# Altium schematic symbol library WE-MXGI.SchLib: 45 symbols
Pins are listed as number, name and electrical type; pins without a type are passive.

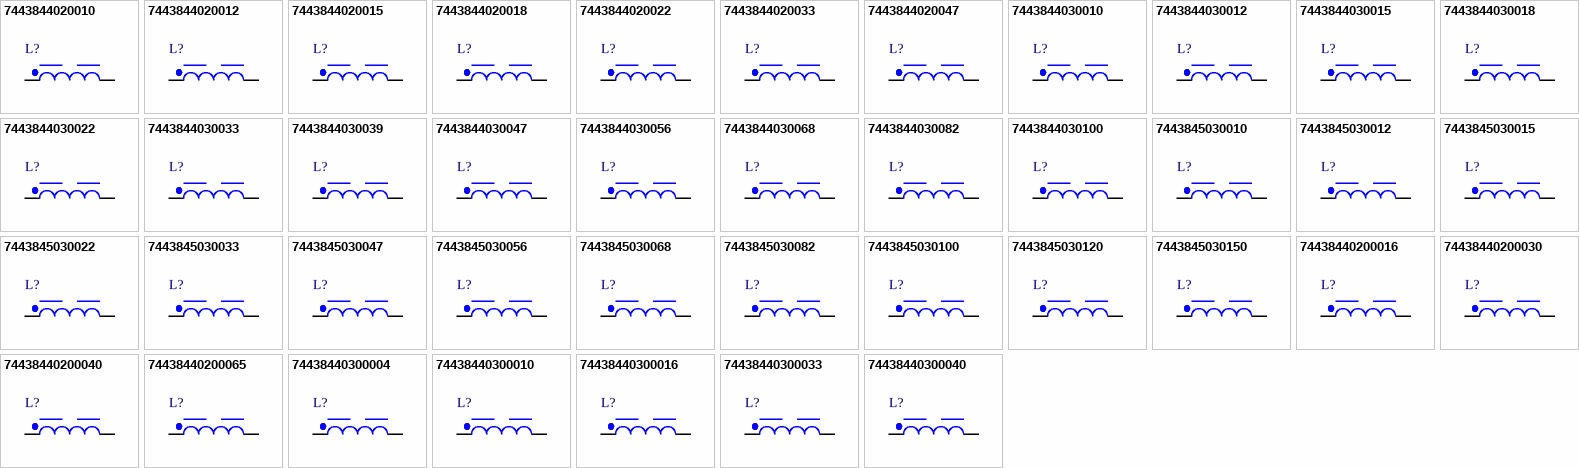
[diagram p0: symbols 7443844020010 to 74438440300040]

## 7443844020010
designator L?, comment 1μH  (value not drawn)
WE-MXGI SMT Power Inductor, size 4020, 1μH, 12.1A, 6.9mΩ; Manufacturer Part Number: 7443844020010; Manufacturer: Wurth Elektronik; Case/Size Code: 4020; Operating Voltage: 80V; Saturation Current @ 30%: 9.8A; Self Resonant Frequency: 59MHz; Category: Power Inductors; Match Code: WE-MXGI; ComponentLink1Description: Website Link; ComponentLink1URL: https://www.we-online.com/redexpert/article/7443844020010?ad; ComponentLink2Description: Datasheet Link; ComponentLink2URL: https://www.we-online.com/redexpert/spec/7443844020010?ad; Mount: Surface Mount; Min Operating Temperature: -40°C; Max Operating Temperature: 125°C; Packaging: Tape and Reel; Length: 4.1mm; Width: 4.1mm; Height: 2.1mm; DC Resistance: 6.9mΩ; Inductance: 1μH; Performance Rated Current: 12.1A
footprint WE-MXGI_4020
footprint WE-MXGI_4020_IPC-7351
simulation model 4020_7443844020010_1u
pins: 1, 2

## 7443844020012
designator L?, comment 1.2μH  (value not drawn)
WE-MXGI SMT Power Inductor, size 4020, 1.2μH, 11A, 8.4mΩ; Manufacturer Part Number: 7443844020012; Manufacturer: Wurth Elektronik; Case/Size Code: 4020; Operating Voltage: 80V; Saturation Current @ 30%: 8.8A; Self Resonant Frequency: 53MHz; Category: Power Inductors; Match Code: WE-MXGI; ComponentLink1Description: Website Link; ComponentLink1URL: https://www.we-online.com/redexpert/article/7443844020012?ad; ComponentLink2Description: Datasheet Link; ComponentLink2URL: https://www.we-online.com/redexpert/spec/7443844020012?ad; Mount: Surface Mount; Min Operating Temperature: -40°C; Max Operating Temperature: 125°C; Packaging: Tape and Reel; Length: 4.1mm; Width: 4.1mm; Height: 2.1mm; DC Resistance: 8.4mΩ; Inductance: 1.2μH; Performance Rated Current: 11A
footprint WE-MXGI_4020
footprint WE-MXGI_4020_IPC-7351
simulation model 4020_7443844020012_1.2u
pins: 1, 2

## 7443844020015
designator L?, comment 1.5μH  (value not drawn)
WE-MXGI SMT Power Inductor, size 4020, 1.5μH, 10.3A, 10mΩ; Manufacturer Part Number: 7443844020015; Manufacturer: Wurth Elektronik; Case/Size Code: 4020; Operating Voltage: 80V; Saturation Current @ 30%: 8.4A; Self Resonant Frequency: 50MHz; Category: Power Inductors; Match Code: WE-MXGI; ComponentLink1Description: Website Link; ComponentLink1URL: https://www.we-online.com/redexpert/article/7443844020015?ad; ComponentLink2Description: Datasheet Link; ComponentLink2URL: https://www.we-online.com/redexpert/spec/7443844020015?ad; Mount: Surface Mount; Min Operating Temperature: -40°C; Max Operating Temperature: 125°C; Packaging: Tape and Reel; Length: 4.1mm; Width: 4.1mm; Height: 2.1mm; DC Resistance: 10mΩ; Inductance: 1.5μH; Performance Rated Current: 10.3A
footprint WE-MXGI_4020
footprint WE-MXGI_4020_IPC-7351
simulation model 4020_7443844020015_1.5u
pins: 1, 2

## 7443844020018
designator L?, comment 1.8μH  (value not drawn)
WE-MXGI SMT Power Inductor, size 4020, 1.8μH, 9.5A, 11.9mΩ; Manufacturer Part Number: 7443844020018; Manufacturer: Wurth Elektronik; Case/Size Code: 4020; Operating Voltage: 80V; Saturation Current @ 30%: 7.1A; Self Resonant Frequency: 42MHz; Category: Power Inductors; Match Code: WE-MXGI; ComponentLink1Description: Website Link; ComponentLink1URL: https://www.we-online.com/redexpert/article/7443844020018?ad; ComponentLink2Description: Datasheet Link; ComponentLink2URL: https://www.we-online.com/redexpert/spec/7443844020018?ad; Mount: Surface Mount; Min Operating Temperature: -40°C; Max Operating Temperature: 125°C; Packaging: Tape and Reel; Length: 4.1mm; Width: 4.1mm; Height: 2.1mm; DC Resistance: 11.9mΩ; Inductance: 1.8μH; Performance Rated Current: 9.5A
footprint WE-MXGI_4020
footprint WE-MXGI_4020_IPC-7351
simulation model 4020_7443844020018_1.8u
pins: 1, 2

## 7443844020022
designator L?, comment 2.2μH  (value not drawn)
WE-MXGI SMT Power Inductor, size 4020, 2.2μH, 7.8A, 15.6mΩ; Manufacturer Part Number: 7443844020022; Manufacturer: Wurth Elektronik; Case/Size Code: 4020; Operating Voltage: 80V; Saturation Current @ 30%: 5.8A; Self Resonant Frequency: 37MHz; Category: Power Inductors; Match Code: WE-MXGI; ComponentLink1Description: Website Link; ComponentLink1URL: https://www.we-online.com/redexpert/article/7443844020022?ad; ComponentLink2Description: Datasheet Link; ComponentLink2URL: https://www.we-online.com/redexpert/spec/7443844020022?ad; Mount: Surface Mount; Min Operating Temperature: -40°C; Max Operating Temperature: 125°C; Packaging: Tape and Reel; Length: 4.1mm; Width: 4.1mm; Height: 2.1mm; DC Resistance: 15.6mΩ; Inductance: 2.2μH; Performance Rated Current: 7.8A
footprint WE-MXGI_4020
footprint WE-MXGI_4020_IPC-7351
simulation model 4020_7443844020022_2.2u
pins: 1, 2

## 7443844020033
designator L?, comment 3.3μH  (value not drawn)
WE-MXGI SMT Power Inductor, size 4020, 3.3μH, 6.1A, 26.6mΩ; Manufacturer Part Number: 7443844020033; Manufacturer: Wurth Elektronik; Case/Size Code: 4020; Operating Voltage: 80V; Saturation Current @ 30%: 5.3A; Self Resonant Frequency: 29MHz; Category: Power Inductors; Match Code: WE-MXGI; ComponentLink1Description: Website Link; ComponentLink1URL: https://www.we-online.com/redexpert/article/7443844020033?ad; ComponentLink2Description: Datasheet Link; ComponentLink2URL: https://www.we-online.com/redexpert/spec/7443844020033?ad; Mount: Surface Mount; Min Operating Temperature: -40°C; Max Operating Temperature: 125°C; Packaging: Tape and Reel; Length: 4.1mm; Width: 4.1mm; Height: 2.1mm; DC Resistance: 26.6mΩ; Inductance: 3.3μH; Performance Rated Current: 6.1A
footprint WE-MXGI_4020
footprint WE-MXGI_4020_IPC-7351
simulation model 4020_7443844020033_3.3u
pins: 1, 2

## 7443844020047
designator L?, comment 4.7μH  (value not drawn)
WE-MXGI SMT Power Inductor, size 4020, 4.7μH, 5.2A, 40.3mΩ; Manufacturer Part Number: 7443844020047; Manufacturer: Wurth Elektronik; Case/Size Code: 4020; Operating Voltage: 80V; Saturation Current @ 30%: 5.7A; Self Resonant Frequency: 25MHz; Category: Power Inductors; Match Code: WE-MXGI; ComponentLink1Description: Website Link; ComponentLink1URL: https://www.we-online.com/redexpert/article/7443844020047?ad; ComponentLink2Description: Datasheet Link; ComponentLink2URL: https://www.we-online.com/redexpert/spec/7443844020047?ad; Mount: Surface Mount; Min Operating Temperature: -40°C; Max Operating Temperature: 125°C; Packaging: Tape and Reel; Length: 4.1mm; Width: 4.1mm; Height: 2.1mm; DC Resistance: 40.3mΩ; Inductance: 4.7μH; Performance Rated Current: 5.2A
footprint WE-MXGI_4020
footprint WE-MXGI_4020_IPC-7351
simulation model 4020_7443844020047_4.7u
pins: 1, 2

## 7443844030010
designator L?, comment 1μH  (value not drawn)
WE-MXGI SMT Power Inductor, size 4030, 1μH, 13A, 6.3mΩ; Manufacturer Part Number: 7443844030010; Manufacturer: Wurth Elektronik; Case/Size Code: 4030; Operating Voltage: 80V; Saturation Current @ 30%: 11.4A; Self Resonant Frequency: 60MHz; Category: Power Inductors; Match Code: WE-MXGI; ComponentLink1Description: Website Link; ComponentLink1URL: https://www.we-online.com/redexpert/article/7443844030010?ad; ComponentLink2Description: Datasheet Link; ComponentLink2URL: https://www.we-online.com/redexpert/spec/7443844030010?ad; Mount: Surface Mount; Operating Temperature Min: -40°C; Operating Temperature Max: 125°C; Packaging: Tape and Reel; Length: 4.3mm; Width: 4.3mm; Height: 3.1mm; DC Resistance: 6.3mΩ; Inductance: 1μH; Performance Rated Current: 13A
footprint WE-MXGI_4030
pins: 1, 2

## 7443844030012
designator L?, comment 1.2μH  (value not drawn)
WE-MXGI SMT Power Inductor, size 4030, 1.2μH, 12.5A, 8.4mΩ; Manufacturer Part Number: 7443844030012; Manufacturer: Wurth Elektronik; Case/Size Code: 4030; Operating Voltage: 80V; Saturation Current @ 30%: 10.1A; Self Resonant Frequency: 57MHz; Category: Power Inductors; Match Code: WE-MXGI; ComponentLink1Description: Website Link; ComponentLink1URL: https://www.we-online.com/redexpert/article/7443844030012?ad; ComponentLink2Description: Datasheet Link; ComponentLink2URL: https://www.we-online.com/redexpert/spec/7443844030012?ad; Mount: Surface Mount; Operating Temperature Min: -40°C; Operating Temperature Max: 125°C; Packaging: Tape and Reel; Length: 4.3mm; Width: 4.3mm; Height: 3.1mm; DC Resistance: 8.4mΩ; Inductance: 1.2μH; Performance Rated Current: 12.5A
footprint WE-MXGI_4030
pins: 1, 2

## 7443844030015
designator L?, comment 1.5μH  (value not drawn)
WE-MXGI SMT Power Inductor, size 4030, 1.5μH, 10.8A, 8.8mΩ; Manufacturer Part Number: 7443844030015; Manufacturer: Wurth Elektronik; Case/Size Code: 4030; Operating Voltage: 80V; Saturation Current @ 30%: 9.4A; Self Resonant Frequency: 47MHz; Category: Power Inductors; Match Code: WE-MXGI; ComponentLink1Description: Website Link; ComponentLink1URL: https://www.we-online.com/redexpert/article/7443844030015?ad; ComponentLink2Description: Datasheet Link; ComponentLink2URL: https://www.we-online.com/redexpert/spec/7443844030015?ad; Mount: Surface Mount; Operating Temperature Min: -40°C; Operating Temperature Max: 125°C; Packaging: Tape and Reel; Length: 4.3mm; Width: 4.3mm; Height: 3.1mm; DC Resistance: 8.8mΩ; Inductance: 1.5μH; Performance Rated Current: 10.8A
footprint WE-MXGI_4030
pins: 1, 2

## 7443844030018
designator L?, comment 1.8μH  (value not drawn)
WE-MXGI SMT Power Inductor, size 4030, 1.8μH, 10.4A, 9.5mΩ; Manufacturer Part Number: 7443844030018; Manufacturer: Wurth Elektronik; Case/Size Code: 4030; Operating Voltage: 80V; Saturation Current @ 30%: 8.9A; Self Resonant Frequency: 40MHz; Category: Power Inductors; Match Code: WE-MXGI; ComponentLink1Description: Website Link; ComponentLink1URL: https://www.we-online.com/redexpert/article/7443844030018?ad; ComponentLink2Description: Datasheet Link; ComponentLink2URL: https://www.we-online.com/redexpert/spec/7443844030018?ad; Mount: Surface Mount; Operating Temperature Min: -40°C; Operating Temperature Max: 125°C; Packaging: Tape and Reel; Length: 4.3mm; Width: 4.3mm; Height: 3.1mm; DC Resistance: 9.5mΩ; Inductance: 1.8μH; Performance Rated Current: 10.4A
footprint WE-MXGI_4030
pins: 1, 2

## 7443844030022
designator L?, comment 2.2μH  (value not drawn)
WE-MXGI SMT Power Inductor, size 4030, 2.2μH, 9A, 12.3mΩ; Manufacturer Part Number: 7443844030022; Manufacturer: Wurth Elektronik; Case/Size Code: 4030; Operating Voltage: 80V; Saturation Current @ 30%: 7.8A; Self Resonant Frequency: 37MHz; Category: Power Inductors; Match Code: WE-MXGI; ComponentLink1Description: Website Link; ComponentLink1URL: https://www.we-online.com/redexpert/article/7443844030022?ad; ComponentLink2Description: Datasheet Link; ComponentLink2URL: https://www.we-online.com/redexpert/spec/7443844030022?ad; Mount: Surface Mount; Operating Temperature Min: -40°C; Operating Temperature Max: 125°C; Packaging: Tape and Reel; Length: 4.3mm; Width: 4.3mm; Height: 3.1mm; DC Resistance: 12.3mΩ; Inductance: 2.2μH; Performance Rated Current: 9A
footprint WE-MXGI_4030
pins: 1, 2

## 7443844030033
designator L?, comment 3.3μH  (value not drawn)
WE-MXGI SMT Power Inductor, size 4030, 3.3μH, 7.6A, 16.4mΩ; Manufacturer Part Number: 7443844030033; Manufacturer: Wurth Elektronik; Case/Size Code: 4030; Operating Voltage: 80V; Saturation Current @ 30%: 6.6A; Self Resonant Frequency: 30MHz; Category: Power Inductors; Match Code: WE-MXGI; ComponentLink1Description: Website Link; ComponentLink1URL: https://www.we-online.com/redexpert/article/7443844030033?ad; ComponentLink2Description: Datasheet Link; ComponentLink2URL: https://www.we-online.com/redexpert/spec/7443844030033?ad; Mount: Surface Mount; Operating Temperature Min: -40°C; Operating Temperature Max: 125°C; Packaging: Tape and Reel; Length: 4.3mm; Width: 4.3mm; Height: 3.1mm; DC Resistance: 16.4mΩ; Inductance: 3.3μH; Performance Rated Current: 7.6A
footprint WE-MXGI_4030
pins: 1, 2

## 7443844030039
designator L?, comment 3.9μH  (value not drawn)
WE-MXGI SMT Power Inductor, size 4030, 3.9μH, 6.6A, 21.7mΩ; Manufacturer Part Number: 7443844030039; Manufacturer: Wurth Elektronik; Case/Size Code: 4030; Operating Voltage: 80V; Saturation Current @ 30%: 6.4A; Self Resonant Frequency: 25MHz; Category: Power Inductors; Match Code: WE-MXGI; ComponentLink1Description: Website Link; ComponentLink1URL: https://www.we-online.com/redexpert/article/7443844030039?ad; ComponentLink2Description: Datasheet Link; ComponentLink2URL: https://www.we-online.com/redexpert/spec/7443844030039?ad; Mount: Surface Mount; Operating Temperature Min: -40°C; Operating Temperature Max: 125°C; Packaging: Tape and Reel; Length: 4.3mm; Width: 4.3mm; Height: 3.1mm; DC Resistance: 21.7mΩ; Inductance: 3.9μH; Performance Rated Current: 6.6A
footprint WE-MXGI_4030
pins: 1, 2

## 7443844030047
designator L?, comment 4.7μH  (value not drawn)
WE-MXGI SMT Power Inductor, size 4030, 4.7μH, 7A, 24.5mΩ; Manufacturer Part Number: 7443844030047; Manufacturer: Wurth Elektronik; Case/Size Code: 4030; Operating Voltage: 80V; Saturation Current @ 30%: 6A; Self Resonant Frequency: 23MHz; Category: Power Inductors; Match Code: WE-MXGI; ComponentLink1Description: Website Link; ComponentLink1URL: https://www.we-online.com/redexpert/article/7443844030047?ad; ComponentLink2Description: Datasheet Link; ComponentLink2URL: https://www.we-online.com/redexpert/spec/7443844030047?ad; Mount: Surface Mount; Operating Temperature Min: -40°C; Operating Temperature Max: 125°C; Packaging: Tape and Reel; Length: 4.3mm; Width: 4.3mm; Height: 3.1mm; DC Resistance: 24.5mΩ; Inductance: 4.7μH; Performance Rated Current: 7A
footprint WE-MXGI_4030
pins: 1, 2

## 7443844030056
designator L?, comment 5.6μH  (value not drawn)
WE-MXGI SMT Power Inductor, size 4030, 5.6μH, 6.1A, 27.3mΩ; Manufacturer Part Number: 7443844030056; Manufacturer: Wurth Elektronik; Case/Size Code: 4030; Operating Voltage: 80V; Saturation Current @ 30%: 5.5A; Self Resonant Frequency: 20MHz; Category: Power Inductors; Match Code: WE-MXGI; ComponentLink1Description: Website Link; ComponentLink1URL: https://www.we-online.com/redexpert/article/7443844030056?ad; ComponentLink2Description: Datasheet Link; ComponentLink2URL: https://www.we-online.com/redexpert/spec/7443844030056?ad; Mount: Surface Mount; Operating Temperature Min: -40°C; Operating Temperature Max: 125°C; Packaging: Tape and Reel; Length: 4.3mm; Width: 4.3mm; Height: 3.1mm; DC Resistance: 27.3mΩ; Inductance: 5.6μH; Performance Rated Current: 6.1A
footprint WE-MXGI_4030
pins: 1, 2

## 7443844030068
designator L?, comment 6.8μH  (value not drawn)
WE-MXGI SMT Power Inductor, size 4030, 6.8μH, 5.3A, 32.6mΩ; Manufacturer Part Number: 7443844030068; Manufacturer: Wurth Elektronik; Case/Size Code: 4030; Operating Voltage: 80V; Saturation Current @ 30%: 5.1A; Self Resonant Frequency: 17MHz; Category: Power Inductors; Match Code: WE-MXGI; ComponentLink1Description: Website Link; ComponentLink1URL: https://www.we-online.com/redexpert/article/7443844030068?ad; ComponentLink2Description: Datasheet Link; ComponentLink2URL: https://www.we-online.com/redexpert/spec/7443844030068?ad; Mount: Surface Mount; Operating Temperature Min: -40°C; Operating Temperature Max: 125°C; Packaging: Tape and Reel; Length: 4.3mm; Width: 4.3mm; Height: 3.1mm; DC Resistance: 32.6mΩ; Inductance: 6.8μH; Performance Rated Current: 5.3A
footprint WE-MXGI_4030
pins: 1, 2

## 7443844030082
designator L?, comment 8.2μH  (value not drawn)
WE-MXGI SMT Power Inductor, size 4030, 8.2μH, 4.6A, 43.2mΩ; Manufacturer Part Number: 7443844030082; Manufacturer: Wurth Elektronik; Case/Size Code: 4030; Operating Voltage: 80V; Self Resonant Frequency: 16MHz; Category: Power Inductors; Match Code: WE-MXGI; ComponentLink1Description: Website Link; ComponentLink1URL: https://www.we-online.com/redexpert/article/7443844030082?ad; ComponentLink2Description: Datasheet Link; ComponentLink2URL: https://www.we-online.com/redexpert/spec/7443844030082?ad; Mount: Surface Mount; Operating Temperature Min: -40°C; Operating Temperature Max: 125°C; Packaging: Tape and Reel; Length: 4.3mm; Width: 4.3mm; Height: 3.1mm; DC Resistance: 43.2mΩ; Inductance: 8.2μH; Performance Rated Current: 4.6A; Saturation Current @ 30%: 4.6A
footprint WE-MXGI_4030
pins: 1, 2

## 7443844030100
designator L?, comment 10μH  (value not drawn)
WE-MXGI SMT Power Inductor, size 4030, 10μH, 4.1A, 57.8mΩ; Manufacturer Part Number: 7443844030100; Manufacturer: Wurth Elektronik; Case/Size Code: 4030; Operating Voltage: 80V; Self Resonant Frequency: 16MHz; Category: Power Inductors; Match Code: WE-MXGI; ComponentLink1Description: Website Link; ComponentLink1URL: https://www.we-online.com/redexpert/article/7443844030100?ad; ComponentLink2Description: Datasheet Link; ComponentLink2URL: https://www.we-online.com/redexpert/spec/7443844030100?ad; Mount: Surface Mount; Operating Temperature Min: -40°C; Operating Temperature Max: 125°C; Packaging: Tape and Reel; Length: 4.3mm; Width: 4.3mm; Height: 3.1mm; DC Resistance: 57.8mΩ; Inductance: 10μH; Performance Rated Current: 4.1A; Saturation Current @ 30%: 4.1A
footprint WE-MXGI_4030
pins: 1, 2

## 7443845030010
designator L?, comment 1μH  (value not drawn)
WE-MXGI SMT Power Inductor, size 5030, 1μH, 15.8A, 5.2mΩ; Manufacturer Part Number: 7443845030010; Manufacturer: Wurth Elektronik; Case/Size Code: 5030; Operating Voltage: 80V; Saturation Current @ 30%: 14.3A; Self Resonant Frequency: 52MHz; Category: Power Inductors; Match Code: WE-MXGI; ComponentLink1Description: Website Link; ComponentLink1URL: https://www.we-online.com/redexpert/article/7443845030010?ad; ComponentLink2Description: Datasheet Link; ComponentLink2URL: https://www.we-online.com/redexpert/spec/7443845030010?ad; Mount: Surface Mount; Min Operating Temperature: -40°C; Max Operating Temperature: 125°C; Packaging: Tape and Reel; Length: 5.4mm; Width: 5.4mm; Height: 3.1mm; DC Resistance: 5.2mΩ; Inductance: 1μH; Performance Rated Current: 15.8A
footprint WE-MXGI_5030
simulation model 5030_7443845030010_1u
pins: 1, 2

## 7443845030012
designator L?, comment 1.2μH  (value not drawn)
WE-MXGI SMT Power Inductor, size 5030, 1.2μH, 17.2A, 4.5mΩ; Manufacturer Part Number: 7443845030012; Manufacturer: Wurth Elektronik; Case/Size Code: 5030; Operating Voltage: 80V; Saturation Current @ 30%: 14.3A; Self Resonant Frequency: 43MHz; Category: Power Inductors; Match Code: WE-MXGI; ComponentLink1Description: Website Link; ComponentLink1URL: https://www.we-online.com/redexpert/article/7443845030012?ad; ComponentLink2Description: Datasheet Link; ComponentLink2URL: https://www.we-online.com/redexpert/spec/7443845030012?ad; Mount: Surface Mount; Min Operating Temperature: -40°C; Max Operating Temperature: 125°C; Packaging: Tape and Reel; Length: 5.4mm; Width: 5.4mm; Height: 3.1mm; DC Resistance: 4.5mΩ; Inductance: 1.2μH; Performance Rated Current: 17.2A
footprint WE-MXGI_5030
simulation model 5030_7443845030012_1.2u
pins: 1, 2

## 7443845030015
designator L?, comment 1.5μH  (value not drawn)
WE-MXGI SMT Power Inductor, size 5030, 1.5μH, 14.9A, 5.5mΩ; Manufacturer Part Number: 7443845030015; Manufacturer: Wurth Elektronik; Case/Size Code: 5030; Operating Voltage: 80V; Saturation Current @ 30%: 12.3A; Self Resonant Frequency: 36MHz; Category: Power Inductors; Match Code: WE-MXGI; ComponentLink1Description: Website Link; ComponentLink1URL: https://www.we-online.com/redexpert/article/7443845030015?ad; ComponentLink2Description: Datasheet Link; ComponentLink2URL: https://www.we-online.com/redexpert/spec/7443845030015?ad; Mount: Surface Mount; Min Operating Temperature: -40°C; Max Operating Temperature: 125°C; Packaging: Tape and Reel; Length: 5.4mm; Width: 5.4mm; Height: 3.1mm; DC Resistance: 5.5mΩ; Inductance: 1.5μH; Performance Rated Current: 14.9A
footprint WE-MXGI_5030
simulation model 5030_7443845030015_1.5u
pins: 1, 2

## 7443845030022
designator L?, comment 2.2μH  (value not drawn)
WE-MXGI SMT Power Inductor, size 5030, 2.2μH, 12.4A, 8.1mΩ; Manufacturer Part Number: 7443845030022; Manufacturer: Wurth Elektronik; Case/Size Code: 5030; Operating Voltage: 80V; Saturation Current @ 30%: 10.5A; Self Resonant Frequency: 35MHz; Category: Power Inductors; Match Code: WE-MXGI; ComponentLink1Description: Website Link; ComponentLink1URL: https://www.we-online.com/redexpert/article/7443845030022?ad; ComponentLink2Description: Datasheet Link; ComponentLink2URL: https://www.we-online.com/redexpert/spec/7443845030022?ad; Mount: Surface Mount; Min Operating Temperature: -40°C; Max Operating Temperature: 125°C; Packaging: Tape and Reel; Length: 5.4mm; Width: 5.4mm; Height: 3.1mm; DC Resistance: 8.1mΩ; Inductance: 2.2μH; Performance Rated Current: 12.4A
footprint WE-MXGI_5030
simulation model 5030_7443845030022_2.2u
pins: 1, 2

## 7443845030033
designator L?, comment 3.3μH  (value not drawn)
WE-MXGI SMT Power Inductor, size 5030, 3.3μH, 10A, 12.9mΩ; Manufacturer Part Number: 7443845030033; Manufacturer: Wurth Elektronik; Case/Size Code: 5030; Operating Voltage: 80V; Saturation Current @ 30%: 8.2A; Self Resonant Frequency: 25MHz; Category: Power Inductors; Match Code: WE-MXGI; ComponentLink1Description: Website Link; ComponentLink1URL: https://www.we-online.com/redexpert/article/7443845030033?ad; ComponentLink2Description: Datasheet Link; ComponentLink2URL: https://www.we-online.com/redexpert/spec/7443845030033?ad; Mount: Surface Mount; Min Operating Temperature: -40°C; Max Operating Temperature: 125°C; Packaging: Tape and Reel; Length: 5.4mm; Width: 5.4mm; Height: 3.1mm; DC Resistance: 12.9mΩ; Inductance: 3.3μH; Performance Rated Current: 10A
footprint WE-MXGI_5030
simulation model 5030_7443845030033_3.3u
pins: 1, 2

## 7443845030047
designator L?, comment 4.7μH  (value not drawn)
WE-MXGI SMT Power Inductor, size 5030, 4.7μH, 8.2A, 22.5mΩ; Manufacturer Part Number: 7443845030047; Manufacturer: Wurth Elektronik; Case/Size Code: 5030; Operating Voltage: 80V; Saturation Current @ 30%: 7.7A; Self Resonant Frequency: 21MHz; Category: Power Inductors; Match Code: WE-MXGI; ComponentLink1Description: Website Link; ComponentLink1URL: https://www.we-online.com/redexpert/article/7443845030047?ad; ComponentLink2Description: Datasheet Link; ComponentLink2URL: https://www.we-online.com/redexpert/spec/7443845030047?ad; Mount: Surface Mount; Min Operating Temperature: -40°C; Max Operating Temperature: 125°C; Packaging: Tape and Reel; Length: 5.4mm; Width: 5.4mm; Height: 3.1mm; DC Resistance: 22.5mΩ; Inductance: 4.7μH; Performance Rated Current: 8.2A
footprint WE-MXGI_5030
simulation model 5030_7443845030047_4.7u
pins: 1, 2

## 7443845030056
designator L?, comment 5.6μH  (value not drawn)
WE-MXGI SMT Power Inductor, size 5030, 5.6μH, 7.1A, 24.5mΩ; Manufacturer Part Number: 7443845030056; Manufacturer: Wurth Elektronik; Case/Size Code: 5030; Operating Voltage: 80V; Saturation Current @ 30%: 6.8A; Self Resonant Frequency: 19MHz; Category: Power Inductors; Match Code: WE-MXGI; ComponentLink1Description: Website Link; ComponentLink1URL: https://www.we-online.com/redexpert/article/7443845030056?ad; ComponentLink2Description: Datasheet Link; ComponentLink2URL: https://www.we-online.com/redexpert/spec/7443845030056?ad; Mount: Surface Mount; Min Operating Temperature: -40°C; Max Operating Temperature: 125°C; Packaging: Tape and Reel; Length: 5.4mm; Width: 5.4mm; Height: 3.1mm; DC Resistance: 24.5mΩ; Inductance: 5.6μH; Performance Rated Current: 7.1A
footprint WE-MXGI_5030
simulation model 5030_7443845030056_5.6u
pins: 1, 2

## 7443845030068
designator L?, comment 6.8μH  (value not drawn)
WE-MXGI SMT Power Inductor, size 5030, 6.8μH, 6.5A, 28.3mΩ; Manufacturer Part Number: 7443845030068; Manufacturer: Wurth Elektronik; Case/Size Code: 5030; Operating Voltage: 80V; Saturation Current @ 30%: 6.8A; Self Resonant Frequency: 18MHz; Category: Power Inductors; Match Code: WE-MXGI; ComponentLink1Description: Website Link; ComponentLink1URL: https://www.we-online.com/redexpert/article/7443845030068?ad; ComponentLink2Description: Datasheet Link; ComponentLink2URL: https://www.we-online.com/redexpert/spec/7443845030068?ad; Mount: Surface Mount; Min Operating Temperature: -40°C; Max Operating Temperature: 125°C; Packaging: Tape and Reel; Length: 5.4mm; Width: 5.4mm; Height: 3.1mm; DC Resistance: 28.3mΩ; Inductance: 6.8μH; Performance Rated Current: 6.5A
footprint WE-MXGI_5030
simulation model 5030_7443845030068_6.8u
pins: 1, 2

## 7443845030082
designator L?, comment 8.2μH  (value not drawn)
WE-MXGI SMT Power Inductor, size 5030, 8.2μH, 6.1A, 34mΩ; Manufacturer Part Number: 7443845030082; Manufacturer: Wurth Elektronik; Case/Size Code: 5030; Operating Voltage: 80V; Saturation Current @ 30%: 5.9A; Self Resonant Frequency: 15MHz; Category: Power Inductors; Match Code: WE-MXGI; ComponentLink1Description: Website Link; ComponentLink1URL: https://www.we-online.com/redexpert/article/7443845030082?ad; ComponentLink2Description: Datasheet Link; ComponentLink2URL: https://www.we-online.com/redexpert/spec/7443845030082?ad; Mount: Surface Mount; Min Operating Temperature: -40°C; Max Operating Temperature: 125°C; Packaging: Tape and Reel; Length: 5.4mm; Width: 5.4mm; Height: 3.1mm; DC Resistance: 34mΩ; Inductance: 8.2μH; Performance Rated Current: 6.1A
footprint WE-MXGI_5030
simulation model 5030_7443845030082_8.2u
pins: 1, 2

## 7443845030100
designator L?, comment 10μH  (value not drawn)
WE-MXGI SMT Power Inductor, size 5030, 10μH, 5.5A, 41.5mΩ; Manufacturer Part Number: 7443845030100; Manufacturer: Wurth Elektronik; Case/Size Code: 5030; Operating Voltage: 80V; Saturation Current @ 30%: 5.4A; Self Resonant Frequency: 12MHz; Category: Power Inductors; Match Code: WE-MXGI; ComponentLink1Description: Website Link; ComponentLink1URL: https://www.we-online.com/redexpert/article/7443845030100?ad; ComponentLink2Description: Datasheet Link; ComponentLink2URL: https://www.we-online.com/redexpert/spec/7443845030100?ad; Mount: Surface Mount; Min Operating Temperature: -40°C; Max Operating Temperature: 125°C; Packaging: Tape and Reel; Length: 5.4mm; Width: 5.4mm; Height: 3.1mm; DC Resistance: 41.5mΩ; Inductance: 10μH; Performance Rated Current: 5.5A
footprint WE-MXGI_5030
simulation model 5030_7443845030100_10u
pins: 1, 2

## 7443845030120
designator L?, comment 12μH  (value not drawn)
WE-MXGI SMT Power Inductor, size 5030, 12μH, 5A, 52.3mΩ; Manufacturer Part Number: 7443845030120; Manufacturer: Wurth Elektronik; Case/Size Code: 5030; Operating Voltage: 80V; Saturation Current @ 30%: 4.9A; Self Resonant Frequency: 11MHz; Category: Power Inductors; Match Code: WE-MXGI; ComponentLink1Description: Website Link; ComponentLink1URL: https://www.we-online.com/redexpert/article/7443845030120?ad; ComponentLink2Description: Datasheet Link; ComponentLink2URL: https://www.we-online.com/redexpert/spec/7443845030120?ad; Mount: Surface Mount; Min Operating Temperature: -40°C; Max Operating Temperature: 125°C; Packaging: Tape and Reel; Length: 5.4mm; Width: 5.4mm; Height: 3.1mm; DC Resistance: 52.3mΩ; Inductance: 12μH; Performance Rated Current: 5A
footprint WE-MXGI_5030
simulation model 5030_7443845030120_12u
pins: 1, 2

## 7443845030150
designator L?, comment 15μH  (value not drawn)
WE-MXGI SMT Power Inductor, size 5030, 15μH, 4.5A, 64.5mΩ; Manufacturer Part Number: 7443845030150; Manufacturer: Wurth Elektronik; Case/Size Code: 5030; Operating Voltage: 80V; Saturation Current @ 30%: 4.3A; Self Resonant Frequency: 10MHz; Category: Power Inductors; Match Code: WE-MXGI; ComponentLink1Description: Website Link; ComponentLink1URL: https://www.we-online.com/redexpert/article/7443845030150?ad; ComponentLink2Description: Datasheet Link; ComponentLink2URL: https://www.we-online.com/redexpert/spec/7443845030150?ad; Mount: Surface Mount; Min Operating Temperature: -40°C; Max Operating Temperature: 125°C; Packaging: Tape and Reel; Length: 5.4mm; Width: 5.4mm; Height: 3.1mm; DC Resistance: 64.5mΩ; Inductance: 15μH; Performance Rated Current: 4.5A
footprint WE-MXGI_5030
simulation model 5030_7443845030150_15u
pins: 1, 2

## 74438440200016
designator L?, comment 0.16μH  (value not drawn)
WE-MXGI SMT Power Inductor, size 4020, 0.16μH, 24.2A, 1.5mΩ; Manufacturer Part Number: 74438440200016; Manufacturer: Wurth Elektronik; Case/Size Code: 4020; Operating Voltage: 80V; Saturation Current @ 30%: 27.9A; Self Resonant Frequency: 197MHz; Category: Power Inductors; Match Code: WE-MXGI; ComponentLink1Description: Website Link; ComponentLink1URL: https://www.we-online.com/redexpert/article/74438440200016?ad; ComponentLink2Description: Datasheet Link; ComponentLink2URL: https://www.we-online.com/redexpert/spec/74438440200016?ad; Mount: Surface Mount; Min Operating Temperature: -40°C; Max Operating Temperature: 125°C; Packaging: Tape and Reel; Length: 4.1mm; Width: 4.1mm; Height: 2.1mm; DC Resistance: 1.5mΩ; Inductance: 0.16μH; Performance Rated Current: 24.2A
footprint WE-MXGI_4020
footprint WE-MXGI_4020_IPC-7351
simulation model 4020_74438440200016_0.16u
pins: 1, 2

## 74438440200030
designator L?, comment 0.3μH  (value not drawn)
WE-MXGI SMT Power Inductor, size 4020, 0.3μH, 23.2A, 2mΩ; Manufacturer Part Number: 74438440200030; Manufacturer: Wurth Elektronik; Case/Size Code: 4020; Operating Voltage: 80V; Saturation Current @ 30%: 17.6A; Self Resonant Frequency: 135MHz; Category: Power Inductors; Match Code: WE-MXGI; ComponentLink1Description: Website Link; ComponentLink1URL: https://www.we-online.com/redexpert/article/74438440200030?ad; ComponentLink2Description: Datasheet Link; ComponentLink2URL: https://www.we-online.com/redexpert/spec/74438440200030?ad; Mount: Surface Mount; Min Operating Temperature: -40°C; Max Operating Temperature: 125°C; Packaging: Tape and Reel; Length: 4.1mm; Width: 4.1mm; Height: 2.1mm; DC Resistance: 2mΩ; Inductance: 0.3μH; Performance Rated Current: 23.2A
footprint WE-MXGI_4020
footprint WE-MXGI_4020_IPC-7351
simulation model 4020_74438440200030_0.3u
pins: 1, 2

## 74438440200040
designator L?, comment 0.4μH  (value not drawn)
WE-MXGI SMT Power Inductor, size 4020, 0.4μH, 16.9A, 3.8mΩ; Manufacturer Part Number: 74438440200040; Manufacturer: Wurth Elektronik; Case/Size Code: 4020; Operating Voltage: 80V; Saturation Current @ 30%: 14.8A; Self Resonant Frequency: 122MHz; Category: Power Inductors; Match Code: WE-MXGI; ComponentLink1Description: Website Link; ComponentLink1URL: https://www.we-online.com/redexpert/article/74438440200040?ad; ComponentLink2Description: Datasheet Link; ComponentLink2URL: https://www.we-online.com/redexpert/spec/74438440200040?ad; Mount: Surface Mount; Min Operating Temperature: -40°C; Max Operating Temperature: 125°C; Packaging: Tape and Reel; Length: 4.1mm; Width: 4.1mm; Height: 2.1mm; DC Resistance: 3.8mΩ; Inductance: 0.4μH; Performance Rated Current: 16.9A
footprint WE-MXGI_4020
footprint WE-MXGI_4020_IPC-7351
simulation model 4020_74438440200040_0.4u
pins: 1, 2

## 74438440200065
designator L?, comment 0.65μH  (value not drawn)
WE-MXGI SMT Power Inductor, size 4020, 0.65μH, 15.2A, 4.8mΩ; Manufacturer Part Number: 74438440200065; Manufacturer: Wurth Elektronik; Case/Size Code: 4020; Operating Voltage: 80V; Saturation Current @ 30%: 12.6A; Self Resonant Frequency: 80MHz; Category: Power Inductors; Match Code: WE-MXGI; ComponentLink1Description: Website Link; ComponentLink1URL: https://www.we-online.com/redexpert/article/74438440200065?ad; ComponentLink2Description: Datasheet Link; ComponentLink2URL: https://www.we-online.com/redexpert/spec/74438440200065?ad; Mount: Surface Mount; Min Operating Temperature: -40°C; Max Operating Temperature: 125°C; Packaging: Tape and Reel; Length: 4.1mm; Width: 4.1mm; Height: 2.1mm; DC Resistance: 4.8mΩ; Inductance: 0.65μH; Performance Rated Current: 15.2A
footprint WE-MXGI_4020
footprint WE-MXGI_4020_IPC-7351
simulation model 4020_74438440200065_0.65u
pins: 1, 2

## 74438440300004
designator L?, comment 0.04μH  (value not drawn)
WE-MXGI SMT Power Inductor, size 4030, 0.04μH, 37.2A, 0.5mΩ; Manufacturer Part Number: 74438440300004; Manufacturer: Wurth Elektronik; Case/Size Code: 4030; Operating Voltage: 80V; Saturation Current @ 30%: 44.3A; Self Resonant Frequency: 630MHz; Category: Power Inductors; Match Code: WE-MXGI; ComponentLink1Description: Website Link; ComponentLink1URL: https://www.we-online.com/redexpert/article/74438440300004?ad; ComponentLink2Description: Datasheet Link; ComponentLink2URL: https://www.we-online.com/redexpert/spec/74438440300004?ad; Mount: Surface Mount; Operating Temperature Min: -40°C; Operating Temperature Max: 125°C; Packaging: Tape and Reel; Length: 4.3mm; Width: 4.3mm; Height: 3.1mm; DC Resistance: 0.5mΩ; Inductance: 0.04μH; Performance Rated Current: 37.2A
footprint WE-MXGI_4030
pins: 1, 2

## 74438440300010
designator L?, comment 0.1μH  (value not drawn)
WE-MXGI SMT Power Inductor, size 4030, 0.1μH, 30.3A, 1.1mΩ; Manufacturer Part Number: 74438440300010; Manufacturer: Wurth Elektronik; Case/Size Code: 4030; Operating Voltage: 80V; Saturation Current @ 30%: 29.6A; Self Resonant Frequency: 293MHz; Category: Power Inductors; Match Code: WE-MXGI; ComponentLink1Description: Website Link; ComponentLink1URL: https://www.we-online.com/redexpert/article/74438440300010?ad; ComponentLink2Description: Datasheet Link; ComponentLink2URL: https://www.we-online.com/redexpert/spec/74438440300010?ad; Mount: Surface Mount; Operating Temperature Min: -40°C; Operating Temperature Max: 125°C; Packaging: Tape and Reel; Length: 4.3mm; Width: 4.3mm; Height: 3.1mm; DC Resistance: 1.1mΩ; Inductance: 0.1μH; Performance Rated Current: 30.3A
footprint WE-MXGI_4030
pins: 1, 2

## 74438440300016
designator L?, comment 0.16μH  (value not drawn)
WE-MXGI SMT Power Inductor, size 4030, 0.16μH, 28.7A, 1.2mΩ; Manufacturer Part Number: 74438440300016; Manufacturer: Wurth Elektronik; Case/Size Code: 4030; Operating Voltage: 80V; Saturation Current @ 30%: 27A; Self Resonant Frequency: 214MHz; Category: Power Inductors; Match Code: WE-MXGI; ComponentLink1Description: Website Link; ComponentLink1URL: https://www.we-online.com/redexpert/article/74438440300016?ad; ComponentLink2Description: Datasheet Link; ComponentLink2URL: https://www.we-online.com/redexpert/spec/74438440300016?ad; Mount: Surface Mount; Operating Temperature Min: -40°C; Operating Temperature Max: 125°C; Packaging: Tape and Reel; Length: 4.3mm; Width: 4.3mm; Height: 3.1mm; DC Resistance: 1.2mΩ; Inductance: 0.16μH; Performance Rated Current: 28.7A
footprint WE-MXGI_4030
pins: 1, 2

## 74438440300033
designator L?, comment 0.33μH  (value not drawn)
WE-MXGI SMT Power Inductor, size 4030, 0.33μH, 24.5A, 2mΩ; Manufacturer Part Number: 74438440300033; Manufacturer: Wurth Elektronik; Case/Size Code: 4030; Operating Voltage: 80V; Saturation Current @ 30%: 18.8A; Self Resonant Frequency: 117MHz; Category: Power Inductors; Match Code: WE-MXGI; ComponentLink1Description: Website Link; ComponentLink1URL: https://www.we-online.com/redexpert/article/74438440300033?ad; ComponentLink2Description: Datasheet Link; ComponentLink2URL: https://www.we-online.com/redexpert/spec/74438440300033?ad; Mount: Surface Mount; Operating Temperature Min: -40°C; Operating Temperature Max: 125°C; Packaging: Tape and Reel; Length: 4.3mm; Width: 4.3mm; Height: 3.1mm; DC Resistance: 2mΩ; Inductance: 0.33μH; Performance Rated Current: 24.5A
footprint WE-MXGI_4030
pins: 1, 2

## 74438440300040
designator L?, comment 0.4μH  (value not drawn)
WE-MXGI SMT Power Inductor, size 4030, 0.4μH, 23A, 2.5mΩ; Manufacturer Part Number: 74438440300040; Manufacturer: Wurth Elektronik; Case/Size Code: 4030; Operating Voltage: 80V; Saturation Current @ 30%: 18.5A; Self Resonant Frequency: 113MHz; Category: Power Inductors; Match Code: WE-MXGI; ComponentLink1Description: Website Link; ComponentLink1URL: https://www.we-online.com/redexpert/article/74438440300040?ad; ComponentLink2Description: Datasheet Link; ComponentLink2URL: https://www.we-online.com/redexpert/spec/74438440300040?ad; Mount: Surface Mount; Operating Temperature Min: -40°C; Operating Temperature Max: 125°C; Packaging: Tape and Reel; Length: 4.3mm; Width: 4.3mm; Height: 3.1mm; DC Resistance: 2.5mΩ; Inductance: 0.4μH; Performance Rated Current: 23A
footprint WE-MXGI_4030
pins: 1, 2

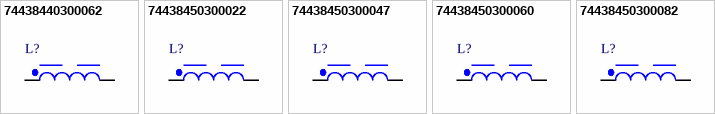
[diagram p1: symbols 74438440300062 to 74438450300082]

## 74438440300062
designator L?, comment 0.62μH  (value not drawn)
WE-MXGI SMT Power Inductor, size 4030, 0.62μH, 15.2A, 4.3mΩ; Manufacturer Part Number: 74438440300062; Manufacturer: Wurth Elektronik; Case/Size Code: 4030; Operating Voltage: 80V; Saturation Current @ 30%: 14.3A; Self Resonant Frequency: 79MHz; Category: Power Inductors; Match Code: WE-MXGI; ComponentLink1Description: Website Link; ComponentLink1URL: https://www.we-online.com/redexpert/article/74438440300062?ad; ComponentLink2Description: Datasheet Link; ComponentLink2URL: https://www.we-online.com/redexpert/spec/74438440300062?ad; Mount: Surface Mount; Operating Temperature Min: -40°C; Operating Temperature Max: 125°C; Packaging: Tape and Reel; Length: 4.3mm; Width: 4.3mm; Height: 3.1mm; DC Resistance: 4.3mΩ; Inductance: 0.62μH; Performance Rated Current: 15.2A
footprint WE-MXGI_4030
pins: 1, 2

## 74438450300022
designator L?, comment 0.22μH  (value not drawn)
WE-MXGI SMT Power Inductor, size 5030, 0.22μH, 28.1A, 1.5mΩ; Manufacturer Part Number: 74438450300022; Manufacturer: Wurth Elektronik; Case/Size Code: 5030; Operating Voltage: 80V; Saturation Current @ 30%: 25.4A; Self Resonant Frequency: 155MHz; Category: Power Inductors; Match Code: WE-MXGI; ComponentLink1Description: Website Link; ComponentLink1URL: https://www.we-online.com/redexpert/article/74438450300022?ad; ComponentLink2Description: Datasheet Link; ComponentLink2URL: https://www.we-online.com/redexpert/spec/74438450300022?ad; Mount: Surface Mount; Min Operating Temperature: -40°C; Max Operating Temperature: 125°C; Packaging: Tape and Reel; Length: 5.4mm; Width: 5.4mm; Height: 3.1mm; DC Resistance: 1.5mΩ; Inductance: 0.22μH; Performance Rated Current: 28.1A
footprint WE-MXGI_5030
simulation model 5030_74438450300022_0.22u
pins: 1, 2

## 74438450300047
designator L?, comment 0.47μH  (value not drawn)
WE-MXGI SMT Power Inductor, size 5030, 0.47μH, 23A, 2.4mΩ; Manufacturer Part Number: 74438450300047; Manufacturer: Wurth Elektronik; Case/Size Code: 5030; Operating Voltage: 80V; Saturation Current @ 30%: 20A; Self Resonant Frequency: 84MHz; Category: Power Inductors; Match Code: WE-MXGI; ComponentLink1Description: Website Link; ComponentLink1URL: https://www.we-online.com/redexpert/article/74438450300047?ad; ComponentLink2Description: Datasheet Link; ComponentLink2URL: https://www.we-online.com/redexpert/spec/74438450300047?ad; Mount: Surface Mount; Min Operating Temperature: -40°C; Max Operating Temperature: 125°C; Packaging: Tape and Reel; Length: 5.4mm; Width: 5.4mm; Height: 3.1mm; DC Resistance: 2.4mΩ; Inductance: 0.47μH; Performance Rated Current: 23A
footprint WE-MXGI_5030
simulation model 5030_74438450300047_0.47u
pins: 1, 2

## 74438450300060
designator L?, comment 0.6μH  (value not drawn)
WE-MXGI SMT Power Inductor, size 5030, 0.6μH, 21.5A, 2.8mΩ; Manufacturer Part Number: 74438450300060; Manufacturer: Wurth Elektronik; Case/Size Code: 5030; Operating Voltage: 80V; Saturation Current @ 30%: 21.2A; Self Resonant Frequency: 73MHz; Category: Power Inductors; Match Code: WE-MXGI; ComponentLink1Description: Website Link; ComponentLink1URL: https://www.we-online.com/redexpert/article/74438450300060?ad; ComponentLink2Description: Datasheet Link; ComponentLink2URL: https://www.we-online.com/redexpert/spec/74438450300060?ad; Mount: Surface Mount; Min Operating Temperature: -40°C; Max Operating Temperature: 125°C; Packaging: Tape and Reel; Length: 5.4mm; Width: 5.4mm; Height: 3.1mm; DC Resistance: 2.8mΩ; Inductance: 0.6μH; Performance Rated Current: 21.5A
footprint WE-MXGI_5030
simulation model 5030_74438450300060_0.6u
pins: 1, 2

## 74438450300082
designator L?, comment 0.82μH  (value not drawn)
WE-MXGI SMT Power Inductor, size 5030, 0.82μH, 19A, 3.5mΩ; Manufacturer Part Number: 74438450300082; Manufacturer: Wurth Elektronik; Case/Size Code: 5030; Operating Voltage: 80V; Saturation Current @ 30%: 16.7A; Self Resonant Frequency: 55MHz; Category: Power Inductors; Match Code: WE-MXGI; ComponentLink1Description: Website Link; ComponentLink1URL: https://www.we-online.com/redexpert/article/74438450300082?ad; ComponentLink2Description: Datasheet Link; ComponentLink2URL: https://www.we-online.com/redexpert/spec/74438450300082?ad; Mount: Surface Mount; Min Operating Temperature: -40°C; Max Operating Temperature: 125°C; Packaging: Tape and Reel; Length: 5.4mm; Width: 5.4mm; Height: 3.1mm; DC Resistance: 3.5mΩ; Inductance: 0.82μH; Performance Rated Current: 19A
footprint WE-MXGI_5030
simulation model 5030_74438450300082_0.82u
pins: 1, 2